# EAGLE library part ANGLE_BOARD_CONNECTOR (library interboard)
Angle interboard connector
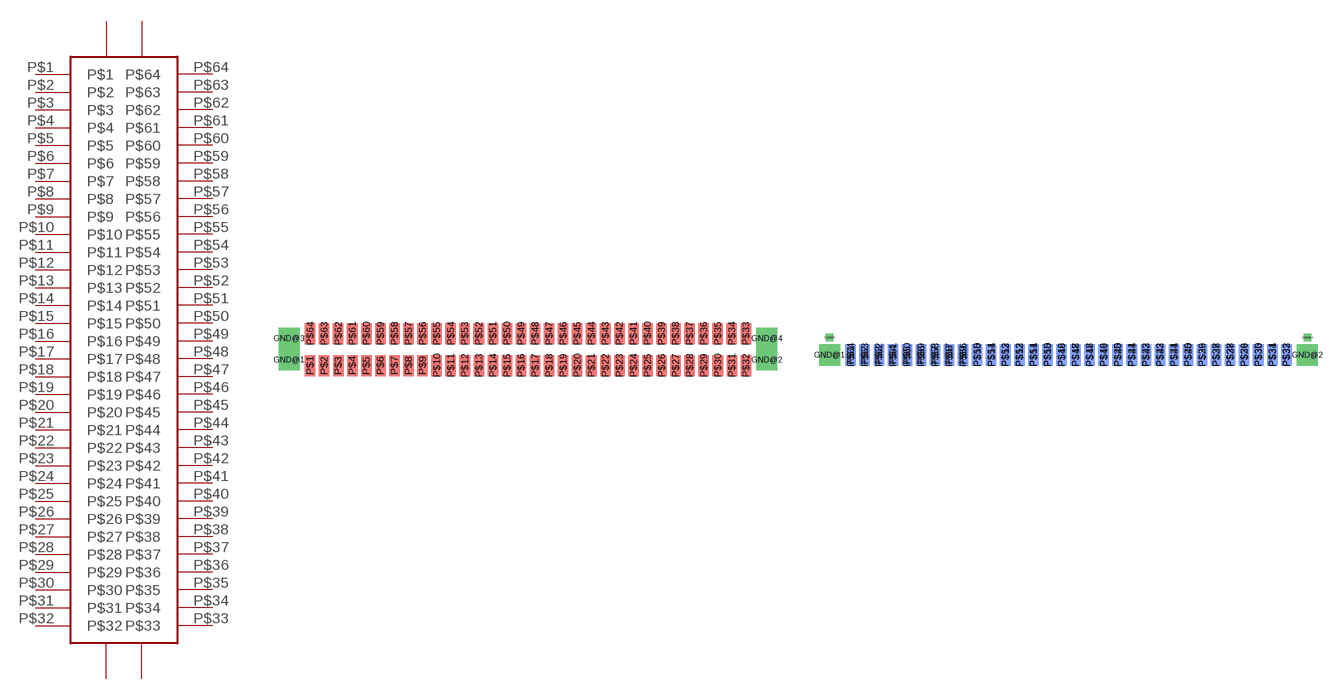
[diagram p0: symbol with the pads of ONE_SIDED; footprints ONE_SIDED, TWO_SIDED]

Designator prefix -

## ANGLE_BOARD_CONNECTORONE_SIDED  [ONE_SIDED]
GND@1  GND
GND@2  GND
GND@3  GND
GND@4  GND
P$1  P$1
P$2  P$2
P$3  P$3
P$4  P$4
P$5  P$5
P$6  P$6
P$7  P$7
P$8  P$8
P$9  P$9
P$10  P$10
P$11  P$11
P$12  P$12
P$13  P$13
P$14  P$14
P$15  P$15
P$16  P$16
P$17  P$17
P$18  P$18
P$19  P$19
P$20  P$20
P$21  P$21
P$22  P$22
P$23  P$23
P$24  P$24
P$25  P$25
P$26  P$26
P$27  P$27
P$28  P$28
P$29  P$29
P$30  P$30
P$31  P$31
P$32  P$32
P$33  P$33
P$34  P$34
P$35  P$35
P$36  P$36
P$37  P$37
P$38  P$38
P$39  P$39
P$40  P$40
P$41  P$41
P$42  P$42
P$43  P$43
P$44  P$44
P$45  P$45
P$46  P$46
P$47  P$47
P$48  P$48
P$49  P$49
P$50  P$50
P$51  P$51
P$52  P$52
P$53  P$53
P$54  P$54
P$55  P$55
P$56  P$56
P$57  P$57
P$58  P$58
P$59  P$59
P$60  P$60
P$61  P$61
P$62  P$62
P$63  P$63
P$64  P$64

## ANGLE_BOARD_CONNECTORTWO_SIDED  [TWO_SIDED]
Pads as for ONE_SIDED

## Footprint ONE_SIDED (pad centres in mm)
drill 1 pad 3 square: GND@1 1.564,-1.501; GND@2 69.564,-1.501; GND@3 1.564,1.547; GND@4 69.564,1.547
smd 1.5 x 3: P$1 4.564,-2.317; P$2 6.564,-2.317; P$3 8.564,-2.317; P$4 10.564,-2.317; P$5 12.564,-2.317; P$6 14.564,-2.317; P$7 16.564,-2.317; P$8 18.564,-2.317; P$9 20.564,-2.317; P$10 22.564,-2.317; P$11 24.564,-2.317; P$12 26.564,-2.317; P$13 28.564,-2.317; P$14 30.564,-2.317; P$15 32.564,-2.317; P$16 34.564,-2.317; P$17 36.564,-2.317; P$18 38.564,-2.317; P$19 40.564,-2.317; P$20 42.564,-2.317; P$21 44.564,-2.317; P$22 46.564,-2.317; P$23 48.564,-2.317; P$24 50.564,-2.317; P$25 52.564,-2.317; P$26 54.564,-2.317; P$27 56.564,-2.317; P$28 58.564,-2.317; P$29 60.564,-2.317; P$30 62.564,-2.317; P$31 64.564,-2.317; P$32 66.564,-2.317; P$33 66.556,2.236; P$34 64.556,2.236; P$35 62.556,2.236; P$36 60.556,2.236; P$37 58.556,2.236; P$38 56.556,2.236; P$39 54.556,2.236; P$40 52.556,2.236; P$41 50.556,2.236; P$42 48.556,2.236; P$43 46.556,2.236; P$44 44.556,2.236; P$45 42.556,2.236; P$46 40.556,2.236; P$47 38.556,2.236; P$48 36.556,2.236; P$49 34.556,2.236; P$50 32.556,2.236; P$51 30.556,2.236; P$52 28.556,2.236; P$53 26.556,2.236; P$54 24.556,2.236; P$55 22.556,2.236; P$56 20.556,2.236; P$57 18.556,2.236; P$58 16.556,2.236; P$59 14.556,2.236; P$60 12.556,2.236; P$61 10.556,2.236; P$62 8.556,2.236; P$63 6.556,2.236; P$64 4.556,2.236

## Footprint TWO_SIDED (pad centres in mm)
drill 1 pad 3 square: GND@1 1.5,1.5; GND@2 69.5,1.5
drill 0.6 square: GND@3 1.5,4; GND@4 69.5,4
smd 1.5 x 3: P$1 4.5,1.5; P$2 6.5,1.5; P$3 8.5,1.5; P$4 10.5,1.5; P$5 12.5,1.5; P$6 14.5,1.5; P$7 16.5,1.5; P$8 18.5,1.5; P$9 20.5,1.5; P$10 22.5,1.5; P$11 24.5,1.5; P$12 26.5,1.5; P$13 28.5,1.5; P$14 30.5,1.5; P$15 32.5,1.5; P$16 34.5,1.5; P$17 36.5,1.5; P$18 38.5,1.5; P$19 40.5,1.5; P$20 42.5,1.5; P$21 44.5,1.5; P$22 46.5,1.5; P$23 48.5,1.5; P$24 50.5,1.5; P$25 52.5,1.5; P$26 54.5,1.5; P$27 56.5,1.5; P$28 58.5,1.5; P$29 60.5,1.5; P$30 62.5,1.5; P$31 64.5,1.5; P$32 66.5,1.5
smd 1.5 x 3 bottom: P$33 66.5,1.5; P$34 64.5,1.5; P$35 62.5,1.5; P$36 60.5,1.5; P$37 58.5,1.5; P$38 56.5,1.5; P$39 54.5,1.5; P$40 52.5,1.5; P$41 50.5,1.5; P$42 48.5,1.5; P$43 46.5,1.5; P$44 44.5,1.5; P$45 42.5,1.5; P$46 40.5,1.5; P$47 38.5,1.5; P$48 36.5,1.5; P$49 34.5,1.5; P$50 32.5,1.5; P$51 30.5,1.5; P$52 28.5,1.5; P$53 26.5,1.5; P$54 24.5,1.5; P$55 22.5,1.5; P$56 20.5,1.5; P$57 18.5,1.5; P$58 16.5,1.5; P$59 14.5,1.5; P$60 12.5,1.5; P$61 10.5,1.5; P$62 8.5,1.5; P$63 6.5,1.5; P$64 4.5,1.5